# Altium integrated library Altium_WE-LQFS (rev20a).IntLib: 33 symbols
Pins are listed as number, name and electrical type; pins without a type are passive.

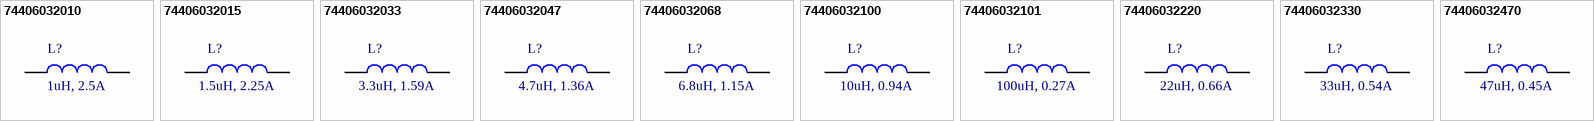
[diagram p0: symbols 74406032010 to 74406032470]

## 74406032010
designator L?, comment 1uH, 2.5A
WE-LQFS SMT Power Inductor, size 3818, 1uH, 2.5A; Manufacturer: Wurth Elektronik; Manufacturer Part Number: 74406032010; Self Resonant Frequency: 264MHz; DC Resistance typ.: 26mOhm; DC Resistance max.: 31mOhm; Saturation Current: 2.15A; ComponentLink1Description: Manufacturer; ComponentLink1URL: http://www.we-online.de; ComponentLink2Description: Datasheet; ComponentLink2URL: https://www.we-online.com/catalog/datasheet/74406032010.pdf; Mounting Technology: SMT; Operating Temperature: -40 to +125degC; Packaging: Tape and Reel; Published Date: April 2020; Inductance: 1uH; Rated Current: 2.5A; Size: 3818
footprint WE-LQFS_3818
pins: 1, 2

## 74406032015
designator L?, comment 1.5uH, 2.25A
WE-LQFS SMT Power Inductor, size 3818, 1.5uH, 2.25A; Manufacturer: Wurth Elektronik; Manufacturer Part Number: 74406032015; Self Resonant Frequency: 215MHz; DC Resistance typ.: 32mOhm; DC Resistance max.: 39mOhm; Saturation Current: 1.92A; ComponentLink1Description: Manufacturer; ComponentLink1URL: http://www.we-online.de; ComponentLink2Description: Datasheet; ComponentLink2URL: https://www.we-online.com/catalog/datasheet/74406032015.pdf; Mounting Technology: SMT; Operating Temperature: -40 to +125degC; Packaging: Tape and Reel; Published Date: April 2020; Inductance: 1.5uH; Rated Current: 2.25A; Size: 3818
footprint WE-LQFS_3818
pins: 1, 2

## 74406032033
designator L?, comment 3.3uH, 1.59A
WE-LQFS SMT Power Inductor, size 3818, 3.3uH, 1.59A; Manufacturer: Wurth Elektronik; Manufacturer Part Number: 74406032033; Self Resonant Frequency: 132MHz; DC Resistance typ.: 64mOhm; DC Resistance max.: 77mOhm; Saturation Current: 1.31A; ComponentLink1Description: Manufacturer; ComponentLink1URL: http://www.we-online.de; ComponentLink2Description: Datasheet; ComponentLink2URL: https://www.we-online.com/catalog/datasheet/74406032033.pdf; Mounting Technology: SMT; Operating Temperature: -40 to +125degC; Packaging: Tape and Reel; Published Date: April 2020; Inductance: 3.3uH; Rated Current: 1.59A; Size: 3818
footprint WE-LQFS_3818
pins: 1, 2

## 74406032047
designator L?, comment 4.7uH, 1.36A
WE-LQFS SMT Power Inductor, size 3818, 4.7uH, 1.36A; Manufacturer: Wurth Elektronik; Manufacturer Part Number: 74406032047; Self Resonant Frequency: 99MHz; DC Resistance typ.: 92mOhm; DC Resistance max.: 110mOhm; Saturation Current: 1.07A; ComponentLink1Description: Manufacturer; ComponentLink1URL: http://www.we-online.de; ComponentLink2Description: Datasheet; ComponentLink2URL: https://www.we-online.com/catalog/datasheet/74406032047.pdf; Mounting Technology: SMT; Operating Temperature: -40 to +125degC; Packaging: Tape and Reel; Published Date: April 2020; Inductance: 4.7uH; Rated Current: 1.36A; Size: 3818
footprint WE-LQFS_3818
pins: 1, 2

## 74406032068
designator L?, comment 6.8uH, 1.15A
WE-LQFS SMT Power Inductor, size 3818, 6.8uH, 1.15A; Manufacturer: Wurth Elektronik; Manufacturer Part Number: 74406032068; Self Resonant Frequency: 81MHz; DC Resistance typ.: 127mOhm; DC Resistance max.: 153mOhm; Saturation Current: 0.88A; ComponentLink1Description: Manufacturer; ComponentLink1URL: http://www.we-online.de; ComponentLink2Description: Datasheet; ComponentLink2URL: https://www.we-online.com/catalog/datasheet/74406032068.pdf; Mounting Technology: SMT; Operating Temperature: -40 to +125degC; Packaging: Tape and Reel; Published Date: April 2020; Inductance: 6.8uH; Rated Current: 1.15A; Size: 3818
footprint WE-LQFS_3818
pins: 1, 2

## 74406032100
designator L?, comment 10uH, 0.94A
WE-LQFS SMT Power Inductor, size 3818, 10uH, 0.94A; Manufacturer: Wurth Elektronik; Manufacturer Part Number: 74406032100; Self Resonant Frequency: 66MHz; DC Resistance typ.: 190mOhm; DC Resistance max.: 228mOhm; Saturation Current: 0.75A; ComponentLink1Description: Manufacturer; ComponentLink1URL: http://www.we-online.de; ComponentLink2Description: Datasheet; ComponentLink2URL: https://www.we-online.com/catalog/datasheet/74406032100.pdf; Mounting Technology: SMT; Operating Temperature: -40 to +125degC; Packaging: Tape and Reel; Published Date: April 2020; Inductance: 10uH; Rated Current: 0.94A; Size: 3818
footprint WE-LQFS_3818
pins: 1, 2

## 74406032101
designator L?, comment 100uH, 0.27A
WE-LQFS SMT Power Inductor, size 3818, 100uH, 0.27A; Manufacturer: Wurth Elektronik; Manufacturer Part Number: 74406032101; Self Resonant Frequency: 17MHz; DC Resistance typ.: 2064mOhm; DC Resistance max.: 2476mOhm; Saturation Current: 0.22A; ComponentLink1Description: Manufacturer; ComponentLink1URL: http://www.we-online.de; ComponentLink2Description: Datasheet; ComponentLink2URL: https://www.we-online.com/catalog/datasheet/74406032101.pdf; Mounting Technology: SMT; Operating Temperature: -40 to +125degC; Packaging: Tape and Reel; Published Date: April 2020; Inductance: 100uH; Rated Current: 0.27A; Size: 3818
footprint WE-LQFS_3818
pins: 1, 2

## 74406032220
designator L?, comment 22uH, 0.66A
WE-LQFS SMT Power Inductor, size 3818, 22uH, 0.66A; Manufacturer: Wurth Elektronik; Manufacturer Part Number: 74406032220; Self Resonant Frequency: 37MHz; DC Resistance typ.: 401mOhm; DC Resistance max.: 481mOhm; Saturation Current: 0.46A; ComponentLink1Description: Manufacturer; ComponentLink1URL: http://www.we-online.de; ComponentLink2Description: Datasheet; ComponentLink2URL: https://www.we-online.com/catalog/datasheet/74406032220.pdf; Mounting Technology: SMT; Operating Temperature: -40 to +125degC; Packaging: Tape and Reel; Published Date: April 2020; Inductance: 22uH; Rated Current: 0.66A; Size: 3818
footprint WE-LQFS_3818
pins: 1, 2

## 74406032330
designator L?, comment 33uH, 0.54A
WE-LQFS SMT Power Inductor, size 3818, 33uH, 0.54A; Manufacturer: Wurth Elektronik; Manufacturer Part Number: 74406032330; Self Resonant Frequency: 30MHz; DC Resistance typ.: 596mOhm; DC Resistance max.: 715mOhm; Saturation Current: 0.4A; ComponentLink1Description: Manufacturer; ComponentLink1URL: http://www.we-online.de; ComponentLink2Description: Datasheet; ComponentLink2URL: https://www.we-online.com/catalog/datasheet/74406032330.pdf; Mounting Technology: SMT; Operating Temperature: -40 to +125degC; Packaging: Tape and Reel; Published Date: April 2020; Inductance: 33uH; Rated Current: 0.54A; Size: 3818
footprint WE-LQFS_3818
pins: 1, 2

## 74406032470
designator L?, comment 47uH, 0.45A
WE-LQFS SMT Power Inductor, size 3818, 47uH, 0.45A; Manufacturer: Wurth Elektronik; Manufacturer Part Number: 74406032470; Self Resonant Frequency: 25MHz; DC Resistance typ.: 834mOhm; DC Resistance max.: 1000mOhm; Saturation Current: 0.34A; ComponentLink1Description: Manufacturer; ComponentLink1URL: http://www.we-online.de; ComponentLink2Description: Datasheet; ComponentLink2URL: https://www.we-online.com/catalog/datasheet/74406032470.pdf; Mounting Technology: SMT; Operating Temperature: -40 to +125degC; Packaging: Tape and Reel; Published Date: April 2020; Inductance: 47uH; Rated Current: 0.45A; Size: 3818
footprint WE-LQFS_3818
pins: 1, 2


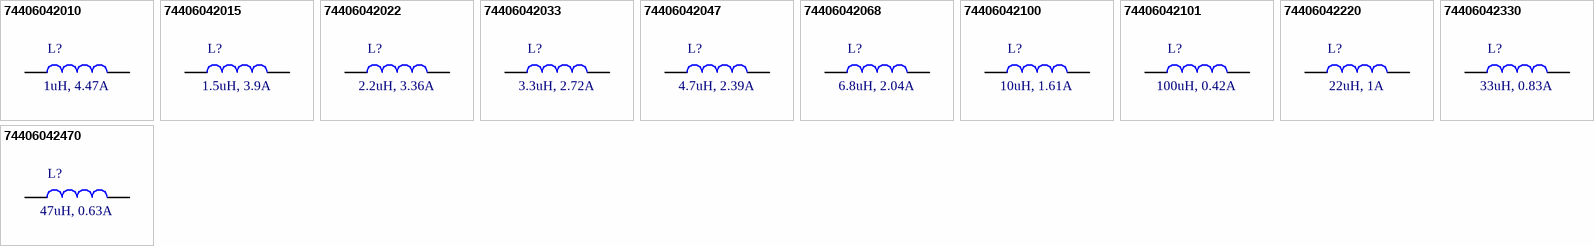
[diagram p1: symbols 74406042010 to 74406042470]

## 74406042010
designator L?, comment 1uH, 4.47A
WE-LQFS SMT Power Inductor, size 4818, 1uH, 4.47A; Manufacturer: Wurth Elektronik; Manufacturer Part Number: 74406042010; Self Resonant Frequency: 237MHz; DC Resistance typ.: 19mOhm; DC Resistance max.: 23mOhm; Saturation Current: 4.06A; ComponentLink1Description: Manufacturer; ComponentLink1URL: http://www.we-online.de; ComponentLink2Description: Datasheet; ComponentLink2URL: https://www.we-online.com/catalog/datasheet/74406042010.pdf; Mounting Technology: SMT; Operating Temperature: -40 to +125degC; Packaging: Tape and Reel; Published Date: April 2020; Inductance: 1uH; Rated Current: 4.47A; Size: 4818
footprint WE-LQFS_4818
pins: 1, 2

## 74406042015
designator L?, comment 1.5uH, 3.9A
WE-LQFS SMT Power Inductor, size 4818, 1.5uH, 3.9A; Manufacturer: Wurth Elektronik; Manufacturer Part Number: 74406042015; Self Resonant Frequency: 176MHz; DC Resistance typ.: 25mOhm; DC Resistance max.: 30mOhm; Saturation Current: 3.08A; ComponentLink1Description: Manufacturer; ComponentLink1URL: http://www.we-online.de; ComponentLink2Description: Datasheet; ComponentLink2URL: https://www.we-online.com/catalog/datasheet/74406042015.pdf; Mounting Technology: SMT; Operating Temperature: -40 to +125degC; Packaging: Tape and Reel; Published Date: April 2020; Inductance: 1.5uH; Rated Current: 3.9A; Size: 4818
footprint WE-LQFS_4818
pins: 1, 2

## 74406042022
designator L?, comment 2.2uH, 3.36A
WE-LQFS SMT Power Inductor, size 4818, 2.2uH, 3.36A; Manufacturer: Wurth Elektronik; Manufacturer Part Number: 74406042022; Self Resonant Frequency: 132MHz; DC Resistance typ.: 33mOhm; DC Resistance max.: 40mOhm; Saturation Current: 2.73A; ComponentLink1Description: Manufacturer; ComponentLink1URL: http://www.we-online.de; ComponentLink2Description: Datasheet; ComponentLink2URL: https://www.we-online.com/catalog/datasheet/74406042022.pdf; Mounting Technology: SMT; Operating Temperature: -40 to +125degC; Packaging: Tape and Reel; Published Date: April 2020; Inductance: 2.2uH; Rated Current: 3.36A; Size: 4818
footprint WE-LQFS_4818
pins: 1, 2

## 74406042033
designator L?, comment 3.3uH, 2.72A
WE-LQFS SMT Power Inductor, size 4818, 3.3uH, 2.72A; Manufacturer: Wurth Elektronik; Manufacturer Part Number: 74406042033; Self Resonant Frequency: 99MHz; DC Resistance typ.: 51mOhm; DC Resistance max.: 61mOhm; Saturation Current: 2.12A; ComponentLink1Description: Manufacturer; ComponentLink1URL: http://www.we-online.de; ComponentLink2Description: Datasheet; ComponentLink2URL: https://www.we-online.com/catalog/datasheet/74406042033.pdf; Mounting Technology: SMT; Operating Temperature: -40 to +125degC; Packaging: Tape and Reel; Published Date: April 2020; Inductance: 3.3uH; Rated Current: 2.72A; Size: 4818
footprint WE-LQFS_4818
pins: 1, 2

## 74406042047
designator L?, comment 4.7uH, 2.39A
WE-LQFS SMT Power Inductor, size 4818, 4.7uH, 2.39A; Manufacturer: Wurth Elektronik; Manufacturer Part Number: 74406042047; Self Resonant Frequency: 89MHz; DC Resistance typ.: 58mOhm; DC Resistance max.: 70mOhm; Saturation Current: 1.53A; ComponentLink1Description: Manufacturer; ComponentLink1URL: http://www.we-online.de; ComponentLink2Description: Datasheet; ComponentLink2URL: https://www.we-online.com/catalog/datasheet/74406042047.pdf; Mounting Technology: SMT; Operating Temperature: -40 to +125degC; Packaging: Tape and Reel; Published Date: April 2020; Inductance: 4.7uH; Rated Current: 2.39A; Size: 4818
footprint WE-LQFS_4818
pins: 1, 2

## 74406042068
designator L?, comment 6.8uH, 2.04A
WE-LQFS SMT Power Inductor, size 4818, 6.8uH, 2.04A; Manufacturer: Wurth Elektronik; Manufacturer Part Number: 74406042068; Self Resonant Frequency: 60MHz; DC Resistance typ.: 81mOhm; DC Resistance max.: 97mOhm; Saturation Current: 1.26A; ComponentLink1Description: Manufacturer; ComponentLink1URL: http://www.we-online.de; ComponentLink2Description: Datasheet; ComponentLink2URL: https://www.we-online.com/catalog/datasheet/74406042068.pdf; Mounting Technology: SMT; Operating Temperature: -40 to +125degC; Packaging: Tape and Reel; Published Date: April 2020; Inductance: 6.8uH; Rated Current: 2.04A; Size: 4818
footprint WE-LQFS_4818
pins: 1, 2

## 74406042100
designator L?, comment 10uH, 1.61A
WE-LQFS SMT Power Inductor, size 4818, 10uH, 1.61A; Manufacturer: Wurth Elektronik; Manufacturer Part Number: 74406042100; Self Resonant Frequency: 45MHz; DC Resistance typ.: 111mOhm; DC Resistance max.: 133mOhm; Saturation Current: 1.1A; ComponentLink1Description: Manufacturer; ComponentLink1URL: http://www.we-online.de; ComponentLink2Description: Datasheet; ComponentLink2URL: https://www.we-online.com/catalog/datasheet/74406042100.pdf; Mounting Technology: SMT; Operating Temperature: -40 to +125degC; Packaging: Tape and Reel; Published Date: April 2020; Inductance: 10uH; Rated Current: 1.61A; Size: 4818
footprint WE-LQFS_4818
pins: 1, 2

## 74406042101
designator L?, comment 100uH, 0.42A
WE-LQFS SMT Power Inductor, size 4818, 100uH, 0.42A; Manufacturer: Wurth Elektronik; Manufacturer Part Number: 74406042101; Self Resonant Frequency: 15MHz; DC Resistance typ.: 1155mOhm; DC Resistance max.: 1386mOhm; Saturation Current: 0.32A; ComponentLink1Description: Manufacturer; ComponentLink1URL: http://www.we-online.de; ComponentLink2Description: Datasheet; ComponentLink2URL: https://www.we-online.com/catalog/datasheet/74406042101.pdf; Mounting Technology: SMT; Operating Temperature: -40 to +125degC; Packaging: Tape and Reel; Published Date: April 2020; Inductance: 100uH; Rated Current: 0.42A; Size: 4818
footprint WE-LQFS_4818
pins: 1, 2

## 74406042220
designator L?, comment 22uH, 1A
WE-LQFS SMT Power Inductor, size 4818, 22uH, 1A; Manufacturer: Wurth Elektronik; Manufacturer Part Number: 74406042220; Self Resonant Frequency: 30MHz; DC Resistance typ.: 283mOhm; DC Resistance max.: 339mOhm; Saturation Current: 0.68A; ComponentLink1Description: Manufacturer; ComponentLink1URL: http://www.we-online.de; ComponentLink2Description: Datasheet; ComponentLink2URL: https://www.we-online.com/catalog/datasheet/74406042220.pdf; Mounting Technology: SMT; Operating Temperature: -40 to +125degC; Packaging: Tape and Reel; Published Date: April 2020; Inductance: 22uH; Rated Current: 1A; Size: 4818
footprint WE-LQFS_4818
pins: 1, 2

## 74406042330
designator L?, comment 33uH, 0.83A
WE-LQFS SMT Power Inductor, size 4818, 33uH, 0.83A; Manufacturer: Wurth Elektronik; Manufacturer Part Number: 74406042330; Self Resonant Frequency: 25MHz; DC Resistance typ.: 407mOhm; DC Resistance max.: 488mOhm; Saturation Current: 0.58A; ComponentLink1Description: Manufacturer; ComponentLink1URL: http://www.we-online.de; ComponentLink2Description: Datasheet; ComponentLink2URL: https://www.we-online.com/catalog/datasheet/74406042330.pdf; Mounting Technology: SMT; Operating Temperature: -40 to +125degC; Packaging: Tape and Reel; Published Date: April 2020; Inductance: 33uH; Rated Current: 0.83A; Size: 4818
footprint WE-LQFS_4818
pins: 1, 2

## 74406042470
designator L?, comment 47uH, 0.63A
WE-LQFS SMT Power Inductor, size 4818, 47uH, 0.63A; Manufacturer: Wurth Elektronik; Manufacturer Part Number: 74406042470; Self Resonant Frequency: 20MHz; DC Resistance typ.: 523mOhm; DC Resistance max.: 627mOhm; Saturation Current: 0.47A; ComponentLink1Description: Manufacturer; ComponentLink1URL: http://www.we-online.de; ComponentLink2Description: Datasheet; ComponentLink2URL: https://www.we-online.com/catalog/datasheet/74406042470.pdf; Mounting Technology: SMT; Operating Temperature: -40 to +125degC; Packaging: Tape and Reel; Published Date: April 2020; Inductance: 47uH; Rated Current: 0.63A; Size: 4818
footprint WE-LQFS_4818
pins: 1, 2


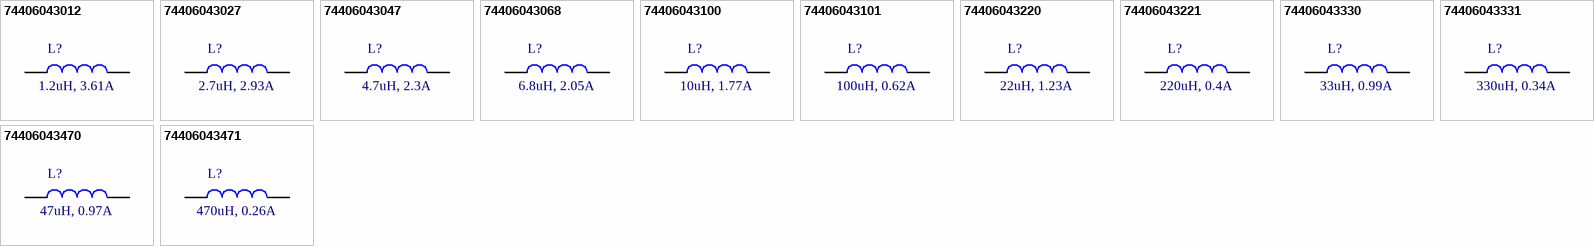
[diagram p2: symbols 74406043012 to 74406043471]

## 74406043012
designator L?, comment 1.2uH, 3.61A
WE-LQFS SMT Power Inductor, size 4828, 1.2uH, 3.61A; Manufacturer: Wurth Elektronik; Manufacturer Part Number: 74406043012; Self Resonant Frequency: 237MHz; DC Resistance typ.: 18mOhm; DC Resistance max.: 21mOhm; Saturation Current: 3.06A; ComponentLink1Description: Manufacturer; ComponentLink1URL: http://www.we-online.de; ComponentLink2Description: Datasheet; ComponentLink2URL: https://www.we-online.com/catalog/datasheet/74406043012.pdf; Mounting Technology: SMT; Operating Temperature: -40 to +125degC; Packaging: Tape and Reel; Published Date: April 2020; Inductance: 1.2uH; Rated Current: 3.61A; Size: 4828
footprint WE-LQFS_4828
pins: 1, 2

## 74406043027
designator L?, comment 2.7uH, 2.93A
WE-LQFS SMT Power Inductor, size 4828, 2.7uH, 2.93A; Manufacturer: Wurth Elektronik; Manufacturer Part Number: 74406043027; Self Resonant Frequency: 119MHz; DC Resistance typ.: 27mOhm; DC Resistance max.: 32mOhm; Saturation Current: 2.07A; ComponentLink1Description: Manufacturer; ComponentLink1URL: http://www.we-online.de; ComponentLink2Description: Datasheet; ComponentLink2URL: https://www.we-online.com/catalog/datasheet/74406043027.pdf; Mounting Technology: SMT; Operating Temperature: -40 to +125degC; Packaging: Tape and Reel; Published Date: April 2020; Inductance: 2.7uH; Rated Current: 2.93A; Size: 4828
footprint WE-LQFS_4828
pins: 1, 2

## 74406043047
designator L?, comment 4.7uH, 2.3A
WE-LQFS SMT Power Inductor, size 4828, 4.7uH, 2.3A; Manufacturer: Wurth Elektronik; Manufacturer Part Number: 74406043047; Self Resonant Frequency: 81MHz; DC Resistance typ.: 42mOhm; DC Resistance max.: 51mOhm; Saturation Current: 1.62A; ComponentLink1Description: Manufacturer; ComponentLink1URL: http://www.we-online.de; ComponentLink2Description: Datasheet; ComponentLink2URL: https://www.we-online.com/catalog/datasheet/74406043047.pdf; Mounting Technology: SMT; Operating Temperature: -40 to +125degC; Packaging: Tape and Reel; Published Date: April 2020; Inductance: 4.7uH; Rated Current: 2.3A; Size: 4828
footprint WE-LQFS_4828
pins: 1, 2

## 74406043068
designator L?, comment 6.8uH, 2.05A
WE-LQFS SMT Power Inductor, size 4828, 6.8uH, 2.05A; Manufacturer: Wurth Elektronik; Manufacturer Part Number: 74406043068; Self Resonant Frequency: 66MHz; DC Resistance typ.: 53mOhm; DC Resistance max.: 64mOhm; Saturation Current: 1.52A; ComponentLink1Description: Manufacturer; ComponentLink1URL: http://www.we-online.de; ComponentLink2Description: Datasheet; ComponentLink2URL: https://www.we-online.com/catalog/datasheet/74406043068.pdf; Mounting Technology: SMT; Operating Temperature: -40 to +125degC; Packaging: Tape and Reel; Published Date: April 2020; Inductance: 6.8uH; Rated Current: 2.05A; Size: 4828
footprint WE-LQFS_4828
pins: 1, 2

## 74406043100
designator L?, comment 10uH, 1.77A
WE-LQFS SMT Power Inductor, size 4828, 10uH, 1.77A; Manufacturer: Wurth Elektronik; Manufacturer Part Number: 74406043100; Self Resonant Frequency: 45MHz; DC Resistance typ.: 72mOhm; DC Resistance max.: 86mOhm; Saturation Current: 1.22A; ComponentLink1Description: Manufacturer; ComponentLink1URL: http://www.we-online.de; ComponentLink2Description: Datasheet; ComponentLink2URL: https://www.we-online.com/catalog/datasheet/74406043100.pdf; Mounting Technology: SMT; Operating Temperature: -40 to +125degC; Packaging: Tape and Reel; Published Date: April 2020; Inductance: 10uH; Rated Current: 1.77A; Size: 4828
footprint WE-LQFS_4828
pins: 1, 2

## 74406043101
designator L?, comment 100uH, 0.62A
WE-LQFS SMT Power Inductor, size 4828, 100uH, 0.62A; Manufacturer: Wurth Elektronik; Manufacturer Part Number: 74406043101; Self Resonant Frequency: 11MHz; DC Resistance typ.: 500mOhm; DC Resistance max.: 600mOhm; Saturation Current: 0.37A; ComponentLink1Description: Manufacturer; ComponentLink1URL: http://www.we-online.de; ComponentLink2Description: Datasheet; ComponentLink2URL: https://www.we-online.com/catalog/datasheet/74406043101.pdf; Mounting Technology: SMT; Operating Temperature: -40 to +125degC; Packaging: Tape and Reel; Published Date: April 2020; Inductance: 100uH; Rated Current: 0.62A; Size: 4828
footprint WE-LQFS_4828
pins: 1, 2

## 74406043220
designator L?, comment 22uH, 1.23A
WE-LQFS SMT Power Inductor, size 4828, 22uH, 1.23A; Manufacturer: Wurth Elektronik; Manufacturer Part Number: 74406043220; Self Resonant Frequency: 25MHz; DC Resistance typ.: 143mOhm; DC Resistance max.: 172mOhm; Saturation Current: 0.77A; ComponentLink1Description: Manufacturer; ComponentLink1URL: http://www.we-online.de; ComponentLink2Description: Datasheet; ComponentLink2URL: https://www.we-online.com/catalog/datasheet/74406043220.pdf; Mounting Technology: SMT; Operating Temperature: -40 to +125degC; Packaging: Tape and Reel; Published Date: April 2020; Inductance: 22uH; Rated Current: 1.23A; Size: 4828
footprint WE-LQFS_4828
pins: 1, 2

## 74406043221
designator L?, comment 220uH, 0.4A
WE-LQFS SMT Power Inductor, size 4828, 220uH, 0.4A; Manufacturer: Wurth Elektronik; Manufacturer Part Number: 74406043221; Self Resonant Frequency: 7MHz; DC Resistance typ.: 1105mOhm; DC Resistance max.: 1326mOhm; Saturation Current: 0.26A; ComponentLink1Description: Manufacturer; ComponentLink1URL: http://www.we-online.de; ComponentLink2Description: Datasheet; ComponentLink2URL: https://www.we-online.com/catalog/datasheet/74406043221.pdf; Mounting Technology: SMT; Operating Temperature: -40 to +125degC; Packaging: Tape and Reel; Published Date: April 2020; Inductance: 220uH; Rated Current: 0.4A; Size: 4828
footprint WE-LQFS_4828
pins: 1, 2

## 74406043330
designator L?, comment 33uH, 0.99A
WE-LQFS SMT Power Inductor, size 4828, 33uH, 0.99A; Manufacturer: Wurth Elektronik; Manufacturer Part Number: 74406043330; Self Resonant Frequency: 20MHz; DC Resistance typ.: 209mOhm; DC Resistance max.: 251mOhm; Saturation Current: 0.64A; ComponentLink1Description: Manufacturer; ComponentLink1URL: http://www.we-online.de; ComponentLink2Description: Datasheet; ComponentLink2URL: https://www.we-online.com/catalog/datasheet/74406043330.pdf; Mounting Technology: SMT; Operating Temperature: -40 to +125degC; Packaging: Tape and Reel; Published Date: April 2020; Inductance: 33uH; Rated Current: 0.99A; Size: 4828
footprint WE-LQFS_4828
pins: 1, 2

## 74406043331
designator L?, comment 330uH, 0.34A
WE-LQFS SMT Power Inductor, size 4828, 330uH, 0.34A; Manufacturer: Wurth Elektronik; Manufacturer Part Number: 74406043331; Self Resonant Frequency: 5.8MHz; DC Resistance typ.: 1554mOhm; DC Resistance max.: 1864mOhm; Saturation Current: 0.22A; ComponentLink1Description: Manufacturer; ComponentLink1URL: http://www.we-online.de; ComponentLink2Description: Datasheet; ComponentLink2URL: https://www.we-online.com/catalog/datasheet/74406043331.pdf; Mounting Technology: SMT; Operating Temperature: -40 to +125degC; Packaging: Tape and Reel; Published Date: April 2020; Inductance: 330uH; Rated Current: 0.34A; Size: 4828
footprint WE-LQFS_4828
pins: 1, 2

## 74406043470
designator L?, comment 47uH, 0.97A
WE-LQFS SMT Power Inductor, size 4828, 47uH, 0.97A; Manufacturer: Wurth Elektronik; Manufacturer Part Number: 74406043470; Self Resonant Frequency: 17MHz; DC Resistance typ.: 216mOhm; DC Resistance max.: 260mOhm; Saturation Current: 0.56A; ComponentLink1Description: Manufacturer; ComponentLink1URL: http://www.we-online.de; ComponentLink2Description: Datasheet; ComponentLink2URL: https://www.we-online.com/catalog/datasheet/74406043470.pdf; Mounting Technology: SMT; Operating Temperature: -40 to +125degC; Packaging: Tape and Reel; Published Date: April 2020; Inductance: 47uH; Rated Current: 0.97A; Size: 4828
footprint WE-LQFS_4828
pins: 1, 2

## 74406043471
designator L?, comment 470uH, 0.26A
WE-LQFS SMT Power Inductor, size 4828, 470uH, 0.26A; Manufacturer: Wurth Elektronik; Manufacturer Part Number: 74406043471; Self Resonant Frequency: 4.7MHz; DC Resistance typ.: 2336mOhm; DC Resistance max.: 2803mOhm; Saturation Current: 0.18A; ComponentLink1Description: Manufacturer; ComponentLink1URL: http://www.we-online.de; ComponentLink2Description: Datasheet; ComponentLink2URL: https://www.we-online.com/catalog/datasheet/74406043471.pdf; Mounting Technology: SMT; Operating Temperature: -40 to +125degC; Packaging: Tape and Reel; Published Date: April 2020; Inductance: 470uH; Rated Current: 0.26A; Size: 4828
footprint WE-LQFS_4828
pins: 1, 2